# Altium footprint library LS20031(GPS).PcbLib: 1 footprints
Each footprint in its own frame and in the unit in brackets; x right, y up, seen from the top. Pads: shape width x height; smd on the part's side, far side on the other; paste and mask are expansions set on the pad; w line width, h text height; cw(c..) or ccw(c..) is an arc to the next point about the centre after c.
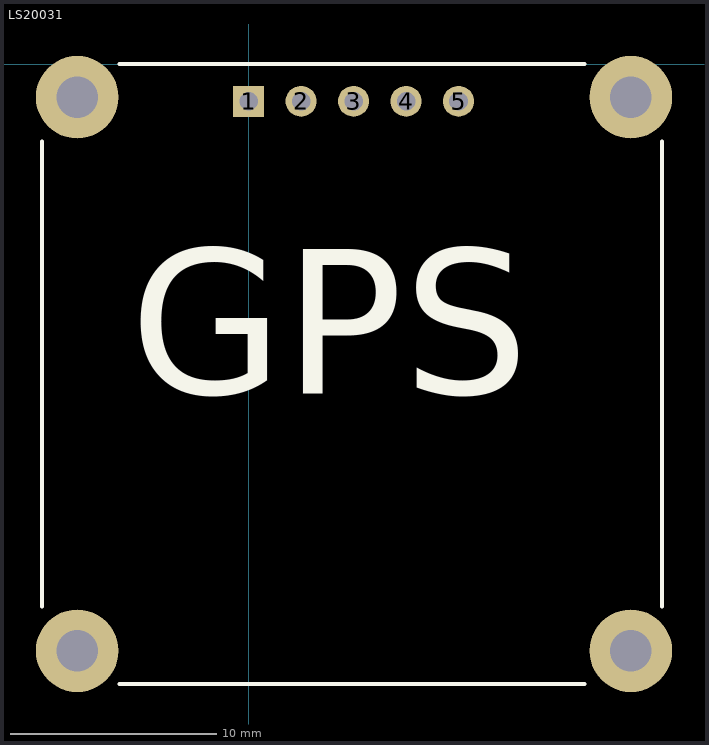
[diagram p0: the footprint, top view; thin cyan lines are the x and y axes]

## LS20031 [mm] "GPS module LS20031"
height 13.8
pads (9):
  rect 1.5x1.5 hole 0.9: 1(0,-1.8)
  round 1.5 hole 0.9: 2(2.54,-1.8) 3(5.08,-1.8) 4(7.62,-1.8) 5(10.16,-1.8)
  round 4 hole 2: ""(-8.3,-28.4) ""(-8.3,-1.6) ""(18.5,-28.4) ""(18.5,-1.6)
Top Overlay:
  lines w0.2: -10,-26.25 -10,-3.75 ; -6.25,-30 16.25,-30 ; -6.25,0 16.25,0 ; 20,-26.25 20,-3.75
  text "GPS" at -5.75,-18.25 h12
3D body: height 10.3, standoff 2.3, extent -9.92,-30 20.08,0